# Altium footprint library PCB - LEADLESS - MISC - ST LGA-12 2x2MM.PCBLIB: 1 footprints
Each footprint in its own frame and in the unit in brackets; x right, y up, seen from the top. Pads: shape width x height; smd on the part's side, far side on the other; paste and mask are expansions set on the pad; w line width, h text height; cw(c..) or ccw(c..) is an arc to the next point about the centre after c.
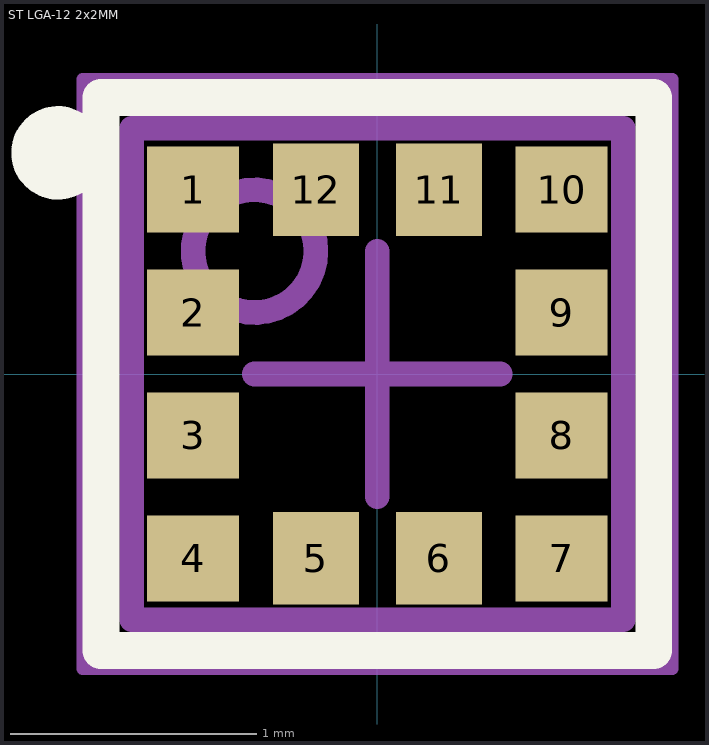
[diagram p0: the footprint, top view; thin cyan lines are the x and y axes]

## ST LGA-12 2x2MM [mm] "LGA, 12-Leads, Body 2.00x2.20mm, Pitch 0.50mm, IPC Medium Density"
height 1.18
pads (12):
  rect 0.375x0.35 smd: 1(-0.75,0.75) 2(-0.75,0.25) 3(-0.75,-0.25) 4(-0.75,-0.75) 7(0.75,-0.75) 8(0.75,-0.25) 9(0.75,0.25) 10(0.75,0.75)
  rect 0.35x0.375 smd: 5(-0.25,-0.75) 6(0.25,-0.75) 11(0.25,0.75) 12(-0.25,0.75)
Top Overlay:
  circle w0.2: c-1.3,0.9 r0.09
  lines w0.15: -1.125,-1.125 1.125,-1.125 1.125,1.125 -1.125,1.125 -1.125,-1.125
Mechanical 13:
  circle w0.1: c-0.5,0.5 r0.25
  lines w0.1: -1,-1 1,-1 1,1 -1,1 -1,-1
Mechanical 15:
  lines w0.05: -1.2,-1.2 -1.2,1.2 1.2,1.2 1.2,-1.2 -1.2,-1.2
  lines w0.1: -0.5,0 0.5,0 ; 0,-0.5 0,0.5
3D body: height 1, standoff 0.05, extent -1,-1 1,1